# Altium integrated library 0805_LED.IntLib: 1 symbol
Pins are listed as number, name and electrical type; pins without a type are passive.

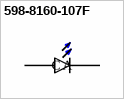
[diagram p0: symbol 598-8160-107F]

## 598-8160-107F
designator D?  (value not drawn)
LED, SMD; 0805; Yellow-Green; Water Clear Lens; 40mcd; 570/575nm; MF: Dialight; Package: 0805 Dialight; MP: 598-8160-107F; Price: 0.09 USD; Availability: Good; Value: *
footprint LEDSC200X125X70-2N_598-8160-107F(Primary)
pins: A, C